# Altium footprint library SparkFun-Connectors.PCBLIB: 344 footprints (part 17 of 22)
Each footprint in its own frame and in the unit in brackets; x right, y up, seen from the top. Pads: shape width x height; smd on the part's side, far side on the other; paste and mask are expansions set on the pad; w line width, h text height; cw(c..) or ccw(c..) is an arc to the next point about the centre after c.
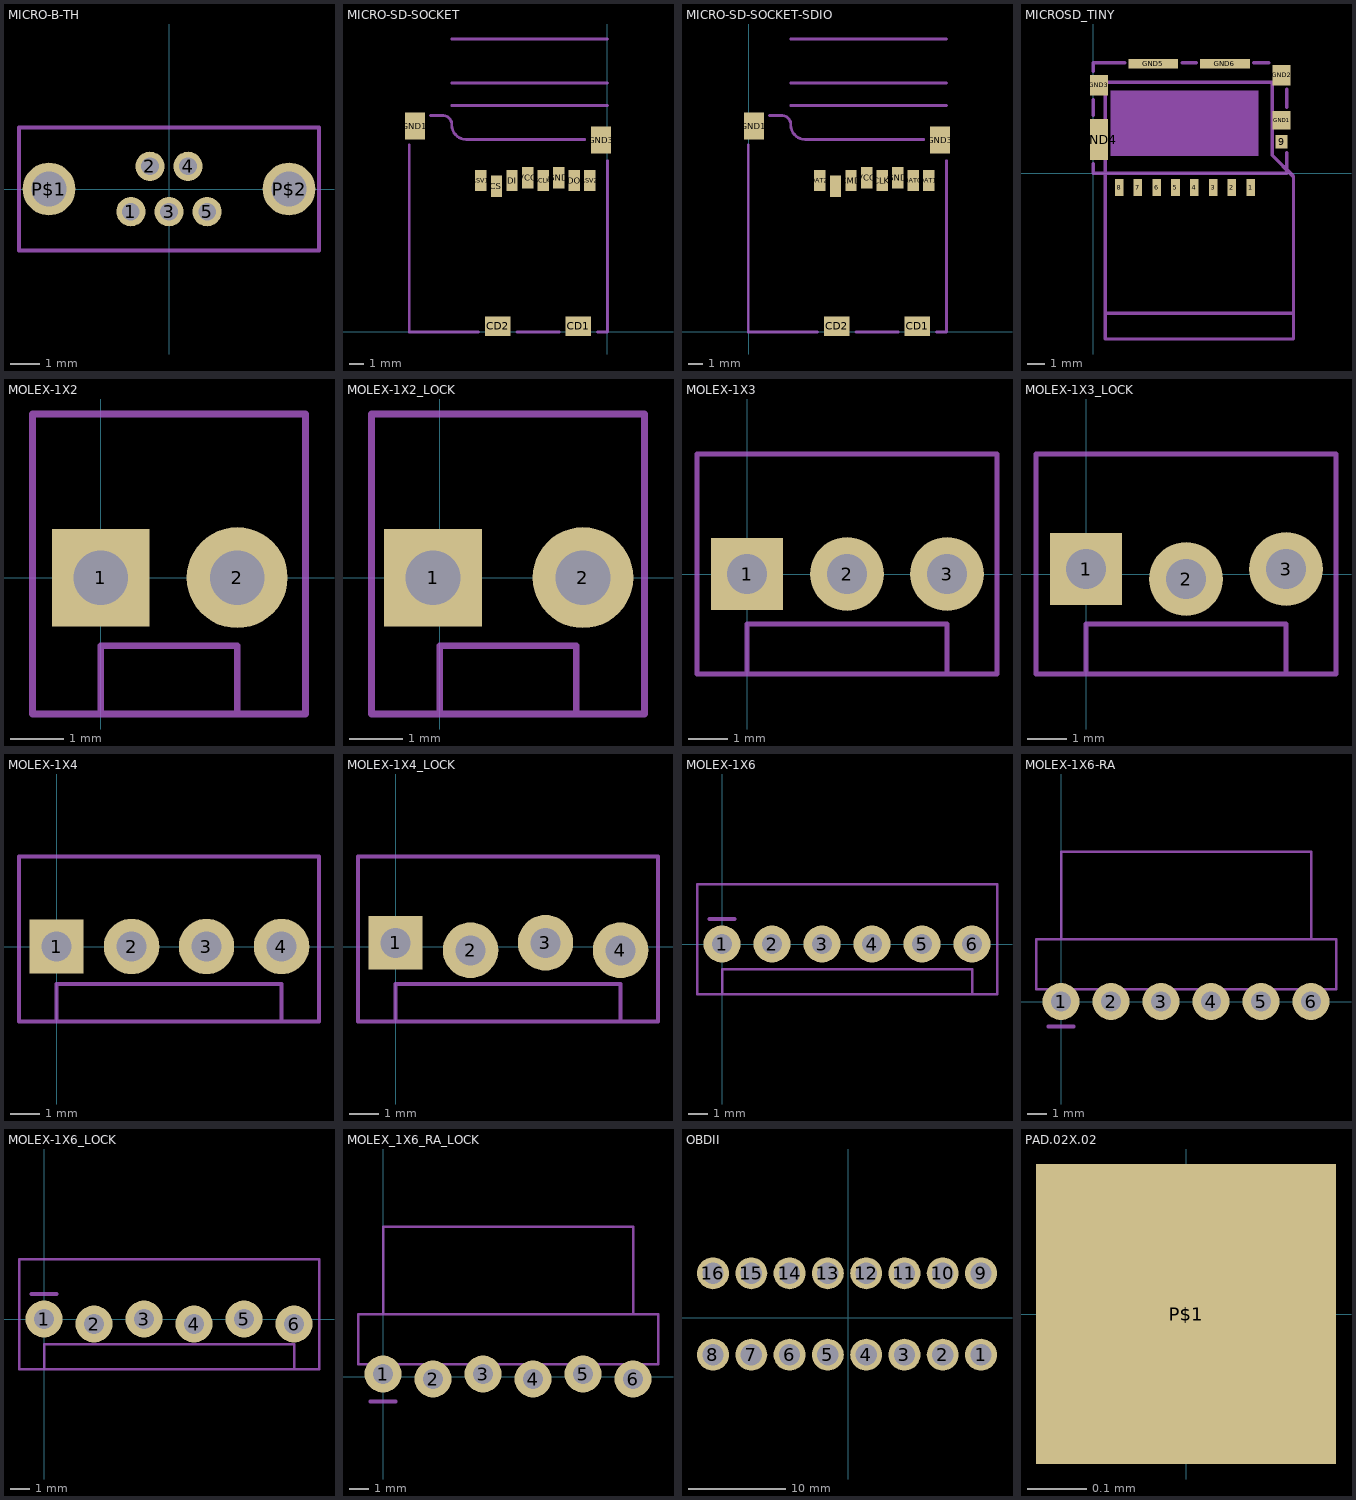
[diagram p16: the footprints below, top view; thin cyan lines are the x and y axes]

## MICRO-B-TH [mm]
pads (7):
  round 1 / inner round 1.524 / far side round 1 hole 0.6: 1(-1.3,-0.775) 2(-0.65,0.775) 3(0,-0.775) 4(0.65,0.775) 5(1.3,-0.775)
  round 1.8 / inner round 1.524 / far side round 1.8 hole 1.2: P$1(-4.1,0) P$2(4.1,0)
Mechanical 8:
  lines w0.127: -5.125,-2.1 5.125,-2.1 5.125,2.1 -5.125,2.1 -5.125,-2.1

## MICRO-SD-SOCKET [mil]
pads (12):
  rect 70.87x55.12 smd: CD1(-80.71,15.75) CD2(-305.12,15.75)
  rect 31.5x59.06 smd: CS(-308.66,405.51) DI(-265.35,421.26) DO(-92.13,421.26) GND(-135.43,429.13) RSV1(-351.97,421.26) RSV2(-48.82,421.26) SCLK(-178.74,421.26) VCC(-222.05,429.13)
  rect 55.12x74.8 smd: GND1(-535.43,572.83) GND3(-17.72,533.46)
Mechanical 8:
  lines w8: -433.07,629.92 0,629.92 ; -433.07,692.91 0,692.91 ; -433.07,814.96 0,814.96
Mechanical 22:
  lines w8: -551.18,519.68 -551.18,0 -358.27,0 ; -492.13,602.36 -460.63,602.36 cw(c-458.66,576.77) -433.07,574.8 ccw(c-392.72,575.78) -393.7,535.43 -62.99,535.43 ; -251.97,0 -133.86,0 ; -27.56,0 0,0 0,476.38

## MICRO-SD-SOCKET-SDIO [mil]
pads (12):
  rect 70.87x55.12 smd: CD1(469.29,15.75) CD2(244.88,15.75)
  rect 31.5x59.06 smd: CD/DAT3(241.34,405.51) CLK(371.26,421.26) CMD(284.65,421.26) DAT0(457.87,421.26) DAT1(501.18,421.26) DAT2(198.03,421.26) GND(414.57,429.13) VCC(327.95,429.13)
  rect 55.12x74.8 smd: GND1(14.57,572.83) GND3(532.28,533.46)
Mechanical 8:
  lines w8: 116.93,629.92 550,629.92 ; 116.93,692.91 550,692.91 ; 116.93,814.96 550,814.96
Mechanical 22:
  lines w8: -1.18,519.68 -1.18,0 191.73,0 ; 57.87,602.36 89.37,602.36 cw(c91.34,576.77) 116.93,574.8 ccw(c157.28,575.78) 156.3,535.43 487.01,535.43 ; 298.03,0 416.14,0 ; 522.44,0 550,0 550,476.38

## MICROSD_TINY [mm]
pads (15):
  rect 0.5x1 smd: 1(9.2,-0.85) 2(8.1,-0.85) 3(7,-0.85) 4(5.9,-0.85) 5(4.8,-0.85) 6(3.7,-0.85) 7(2.6,-0.85) 8(1.5,-0.85)
  rect 0.72x0.78 smd: 9(11,1.83)
  rect 1.05x1.08 smd: GND1(11,3.1)
  rect 1.05x1.2 smd: GND2(11,5.71) GND3(0.325,5.14)
  rect 1.05x2.39 smd: GND4(0.325,1.955)
  rect 2.91x0.55 smd: GND5(3.505,6.385) GND6(7.695,6.385)
Mechanical 8:
  lines w0.203: 0.7,-8.2 0.7,5.3 10.45,5.3 10.45,1.05 11.7,-0.2 11.7,-8.2 ; 0.7,-8.2 0.7,-9.7 11.7,-9.7 11.7,-8.2 ; 0.7,-8.2 11.7,-8.2
Mechanical 22:
  lines w0.203: 0,0.55 0,0 11.3,0 11.3,1.2 ; 0,3.375 0,4.3 ; 0,5.95 0,6.45 1.824,6.45 ; 5.2,6.45 6.025,6.45 ; 9.375,6.45 10.25,6.45 ; 11.3,3.85 11.3,4.9
Mechanical 30:
  region: 1.016,1.016 1.016,4.826 9.652,4.826 9.652,1.016

## MOLEX-1X2 [mil]
pads (2):
  rect 71.65x71.65 / inner rect 60x60 / far side rect 71.65x71.65 hole 40: 1(0,0)
  round 74 / inner round 60 / far side round 74 hole 40: 2(100,0)
Mechanical 22:
  lines w5: 0,-100 100,-100 ; 0,-100 -50,-100 -50,120 150,120 150,-100 100,-100 ; 0,-100 0,-50 100,-50 100,-100

## MOLEX-1X2_LOCK [mil]
pads (2):
  rect 71.65x71.65 / inner rect 60x60 / far side rect 71.65x71.65 hole 40: 1(-5,0)
  round 74 / inner round 60 / far side round 74 hole 40: 2(105,0)
Mechanical 8:
  region: -11.5,-11.5 -11.5,11.5 11.5,11.5 11.5,-11.5
  region: 88.5,-11.5 88.5,11.5 111.5,11.5 111.5,-11.5
Mechanical 22:
  lines w5: 0,-100 100,-100 ; 0,-100 -50,-100 -50,120 150,120 150,-100 100,-100 ; 0,-100 0,-50 100,-50 100,-100

## MOLEX-1X3 [mil]
pads (3):
  rect 71.65x71.65 / inner rect 60x60 / far side rect 71.65x71.65 hole 40: 1(0,0)
  round 74 / inner round 60 / far side round 74 hole 40: 2(100,0) 3(200,0)
Mechanical 22:
  lines w5: 0,-100 200,-100 ; 0,-100 -50,-100 -50,120 250,120 250,-100 200,-100 ; 0,-100 0,-50 200,-50 200,-100

## MOLEX-1X3_LOCK [mil]
pads (3):
  rect 71.65x71.65 / inner rect 60x60 / far side rect 71.65x71.65 hole 40: 1(0,5)
  round 74 / inner round 60 / far side round 74 hole 40: 2(100,-5) 3(200,5)
Mechanical 8:
  region: -11.5,-11.5 -11.5,11.5 11.5,11.5 11.5,-11.5
  region: 88.5,-11.5 88.5,11.5 111.5,11.5 111.5,-11.5
  region: 188.5,-11.5 188.5,11.5 211.5,11.5 211.5,-11.5
Mechanical 22:
  lines w5: 0,-100 200,-100 ; 0,-100 -50,-100 -50,120 250,120 250,-100 200,-100 ; 0,-100 0,-50 200,-50 200,-100

## MOLEX-1X4 [mil]
pads (4):
  rect 71.65x71.65 / inner rect 60x60 / far side rect 71.65x71.65 hole 40: 1(0,0)
  round 74 / inner round 60 / far side round 74 hole 40: 2(100,0) 3(200,0) 4(300,0)
Mechanical 22:
  lines w5: 0,-100 300,-100 ; 0,-100 -50,-100 -50,120 350,120 350,-100 300,-100 ; 0,-100 0,-50 300,-50 300,-100

## MOLEX-1X4_LOCK [mil]
pads (4):
  rect 71.65x71.65 / inner rect 60x60 / far side rect 71.65x71.65 hole 40: 1(0,5)
  round 74 / inner round 60 / far side round 74 hole 40: 2(100,-5) 3(200,5) 4(300,-5)
Mechanical 22:
  lines w5: 0,-100 300,-100 ; 0,-100 -50,-100 -50,120 350,120 350,-100 300,-100 ; 0,-100 0,-50 300,-50 300,-100

## MOLEX-1X6 [mil]
pads (6):
  round 74 / inner round 60 / far side round 74 hole 40: 1(0,0) 2(100,0) 3(200,0) 4(300,0) 5(400,0) 6(500,0)
Mechanical 22:
  lines w5: 0,-100 500,-100 ; 0,-100 -50,-100 -50,120 550,120 550,-100 500,-100 ; 0,-100 0,-50 500,-50 500,-100
  lines w8: -25,50 25,50
Mechanical 23:
  lines w8: -25,50 25,50

## MOLEX-1X6-RA [mil]
pads (6):
  round 74 / inner round 60 / far side round 74 hole 40: 1(0,0) 2(100,0) 3(200,0) 4(300,0) 5(400,0) 6(500,0)
Mechanical 22:
  lines w5: 0,125 500,125 ; 0,125 -50,125 -50,25 550,25 550,125 500,125 ; 0,125 0,300 500,300 500,125
  lines w8: -25,-50 25,-50
Mechanical 23:
  lines w8: -25,-50 25,-50

## MOLEX-1X6_LOCK [mil]
pads (6):
  round 74 / inner round 60 / far side round 74 hole 40: 1(0,0) 2(100,-10) 3(200,0) 4(300,-10) 5(400,0) 6(500,-10)
Mechanical 8:
  region: -11.5,-16.5 -11.5,6.5 11.5,6.5 11.5,-16.5
  region: 88.5,-16.5 88.5,6.5 111.5,6.5 111.5,-16.5
  region: 188.5,-16.5 188.5,6.5 211.5,6.5 211.5,-16.5
  region: 288.5,-16.5 288.5,6.5 311.5,6.5 311.5,-16.5
  region: 388.5,-16.5 388.5,6.5 411.5,6.5 411.5,-16.5
  region: 488.5,-16.5 488.5,6.5 511.5,6.5 511.5,-16.5
Mechanical 22:
  lines w5: 0,-100 500,-100 ; 0,-100 -50,-100 -50,120 550,120 550,-100 500,-100 ; 0,-100 0,-50 500,-50 500,-100
  lines w8: -25,50 25,50
Mechanical 23:
  lines w8: -25,50 25,50

## MOLEX_1X6_RA_LOCK [mil]
pads (6):
  round 74 / inner round 60 / far side round 74 hole 40: 1(0,5) 2(100,-5) 3(200,5) 4(300,-5) 5(400,5) 6(500,-5)
Mechanical 22:
  lines w5: 0,125 500,125 ; 0,125 -50,125 -50,25 550,25 550,125 500,125 ; 0,125 0,300 500,300 500,125
  lines w8: -25,-50 25,-50
Mechanical 23:
  lines w8: -25,-50 25,-50

## OBDII [mil]
pads (16):
  round 129.91 / inner round 60 / far side round 129.91 hole 86.61: 1(538.58,-150) 2(383.07,-150) 3(227.56,-150) 4(72.05,-150) 5(-83.46,-150) 6(-238.98,-150) 7(-394.49,-150) 8(-550,-150) 9(538.58,180.71) 10(383.07,180.71) 11(227.56,180.71) 12(72.05,180.71) 13(-83.46,180.71) 14(-238.98,180.71) 15(-394.49,180.71) 16(-550,180.71)

## PAD.02X.02 [mil]
pads (1):
  rect 20x20 smd: P$1(0,0)